# Altium integrated library Logique.IntLib: 4 symbols
Pins are listed as number, name and electrical type; pins without a type are passive.

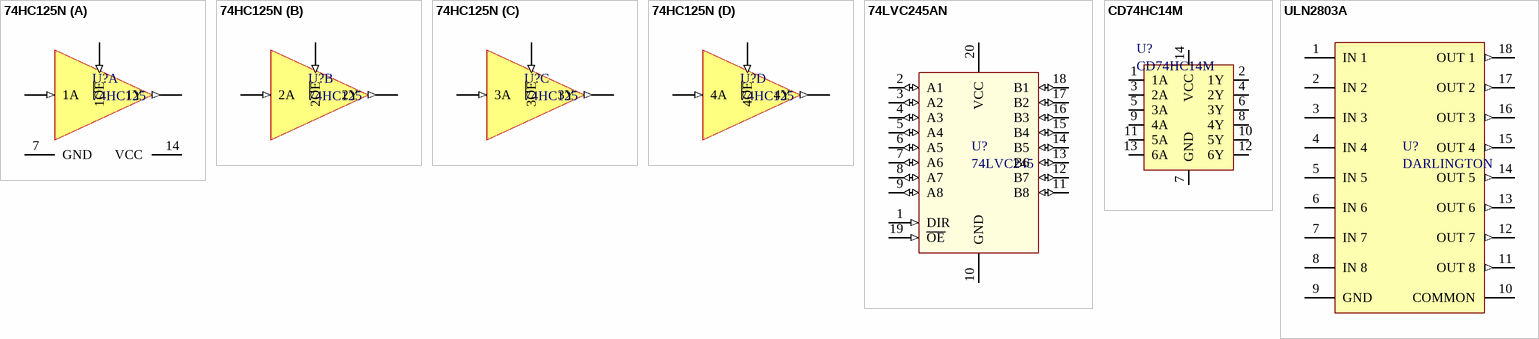
[diagram p0: symbols 74HC125N to ULN2803A]

## 74HC125N
designator U?, comment 74HC125
footprint DIP14
part A pins: 1 1~{OE} (in), 2 1A (in), 3 1Y (out), 7 GND (power), 14 VCC (power)
part B pins: 4 2~{OE} (in), 5 2A (in), 6 2Y (out)
part C pins: 8 3Y (out), 9 3A (in), 10 3~{OE} (in)
part D pins: 11 4Y (out), 12 4A (in), 13 4~{OE} (in)

## 74LVC245AN
designator U?, comment 74LVC245
footprint DIP20
pins: 1 DIR (in), 2 A1 (io), 3 A2 (io), 4 A3 (io), 5 A4 (io), 6 A5 (io), 7 A6 (io), 8 A7 (io), 9 A8 (io), 10 GND (power), 11 B8 (io), 12 B7 (io), 13 B6 (io), 14 B5 (io), 15 B4 (io), 16 B3 (io), 17 B2 (io), 18 B1 (io), 19 ~{OE} (in), 20 VCC (power)

## CD74HC14M
designator U?
IC HEX INV SCHMITT TRIG 14-SOIC; Manufacturer: Texas Instruments; Supplier 1: Farnell; Supplier Part Number 1: 1103160; Manufacturer Part Number: CD74HC14M; ComponentLink1URL: http://www.ti.com/lit/ds/symlink/cd74hc14.pdf; ComponentLink1Description: http://www.ti.com/lit/ds/symlink/cd74hc14.pdf
footprint SOIC127P600X175-14N (SOIC, 14-Leads, Body 8,65x3,90mm, Pitch 1,27mm, IPC Medium Density)
pins: 1 1A, 2 1Y, 3 2A, 4 2Y, 5 3A, 6 3Y, 7 GND, 8 4Y, 9 4A, 10 5Y, 11 5A, 12 6Y, 13 6A, 14 VCC

## ULN2803A
designator U?, comment DARLINGTON
Darlington Transistor Arrays; Manufacturer 1: texas instruments; Manufacturer Part Number: SLRS049G; Supplier 1: farnell; Supplier Part Number 1: 1094428
footprint DIP18
footprint SOIC-18 (SOIC, 18-Leads, Body 11,8x7,6mm (max), Pitch 1,27mm, IPC Medium Density)
pins: 1 IN 1, 2 IN 2, 3 IN 3, 4 IN 4, 5 IN 5, 6 IN 6, 7 IN 7, 8 IN 8, 9 GND (power), 10 COMMON (power), 11 OUT 8 (out), 12 OUT 7 (out), 13 OUT 6 (out), 14 OUT 5 (out), 15 OUT 4 (out), 16 OUT 3 (out), 17 OUT 2 (out), 18 OUT 1 (out)